# EAGLE library part PN61729-S (library con-berg-custom)
BERG USB connector
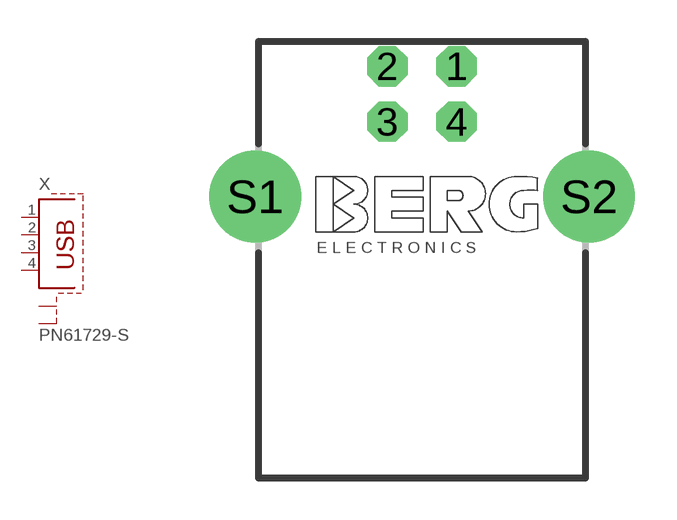
[diagram p0: symbol with the pads of PN61729-S; footprint PN61729-S]

Designator prefix X

## PN61729-S (OC_FARNELL: unknown; OC_NEWARK: unknown)  [PN61729-S]
1  1  pas
2  2  pas
3  3  pas
4  4  pas
S1  S1  pas
S2  S2  pas

## Footprint PN61729-S (pad centres in mm)
USB connector with shield
drill 0.95 octagon: 1 1.25,4.71; 2 -1.25,4.71; 3 -1.25,2.71; 4 1.25,2.71
drill 2.3 pad 2.9: S1 -6.02,0; S2 6.02,0